# Altium footprint library 475900001.PcbLib: 1 footprints
Each footprint in its own frame and in the unit in brackets; x right, y up, seen from the top. Pads: shape width x height; smd on the part's side, far side on the other; paste and mask are expansions set on the pad; w line width, h text height; cw(c..) or ccw(c..) is an arc to the next point about the centre after c.
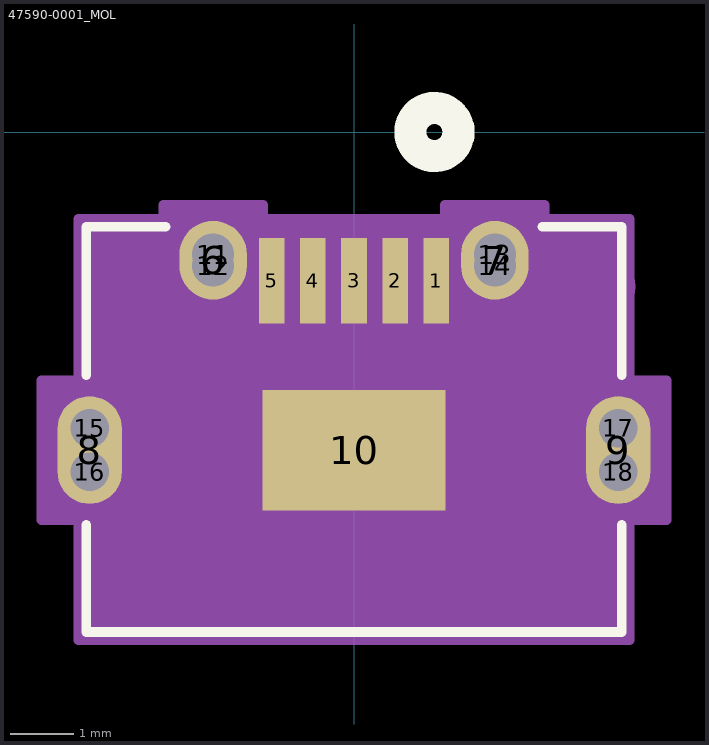
[diagram p0: the footprint, top view; thin cyan lines are the x and y axes]

## 47590-0001_MOL [mil]
pads (18):
  rect 16x53 smd paste+0 mask+0: 1(51.18,-92.46) 2(25.59,-92.46) 3(0,-92.46) 4(-25.59,-92.46) 5(-51.18,-92.46)
  oval 42x49 / inner round 60 / far side oval 42x49 hole 1 paste-24.5 mask+0: 6(-87.6,-79.66) 7(87.6,-79.66)
  oval 40x67 / inner round 60 / far side oval 40x67 hole 1 paste-33.5 mask+0: 8(-164.37,-197.77) 9(164.37,-197.77)
  rect 114x75 smd paste-57 mask-57: 10(0,-197.77)
  round 26 / inner round 60 / far side round 26 hole 26 unplated paste-13 mask-13: 11(-87.6,-76.16) 12(-87.6,-83.16) 13(87.6,-76.16) 14(87.6,-83.16)
  round 24 / inner round 60 / far side round 24 hole 24 unplated paste-12 mask-12: 15(-164.37,-184.27) 16(-164.37,-211.27) 17(164.37,-184.27) 18(164.37,-211.27)
Top Overlay:
  circle w20: c50,0 r15
  lines w6: -166.5,-244.3 -166.5,-310.91 166.5,-310.91 166.5,-244.3 ; -166.5,-151.24 -166.5,-58.91 -117.01,-58.91 ; 117.01,-58.91 166.5,-58.91 166.5,-151.24
Bottom Overlay:
  circle w20: c50,0 r15
Mechanical 13:
  circle w20: c150,-96 r15
  lines w1: -161.5,-305.91 161.5,-305.91 161.5,-63.91 -161.5,-63.91 -161.5,-305.91
Mechanical 15:
  region: 171.5,-53.91 118.6,-53.91 118.6,-45.16 56.6,-45.16 56.6,-53.91 -56.6,-53.91 -56.6,-45.16 -118.6,-45.16 -118.6,-53.91 -171.5,-53.91 -171.5,-154.27 -194.37,-154.27 -194.37,-241.27 -171.5,-241.27 -171.5,-315.91 171.5,-315.91 171.5,-241.27 194.37,-241.27 194.37,-154.27 171.5,-154.27
  lines w6: -194.37,-241.27 -194.37,-154.27 -171.5,-154.27 -171.5,-53.91 -118.6,-53.91 -118.6,-45.16 -56.6,-45.16 -56.6,-53.91 56.6,-53.91 56.6,-45.16 118.6,-45.16 118.6,-53.91 171.5,-53.91 171.5,-154.27 194.37,-154.27 194.37,-241.27 171.5,-241.27 171.5,-315.91 -171.5,-315.91 -171.5,-241.27 -194.37,-241.27
Multi-Layer:
  lines w24: -164.37,-211.27 -164.37,-184.27 ; 164.37,-211.27 164.37,-184.27
  lines w26: -87.6,-83.16 -87.6,-76.16 ; 87.6,-83.16 87.6,-76.16